# Altium footprint library SamacSys.PcbLib: 3 footprints
Each footprint in its own frame and in the unit in brackets; x right, y up, seen from the top. Pads: shape width x height; smd on the part's side, far side on the other; paste and mask are expansions set on the pad; w line width, h text height; cw(c..) or ccw(c..) is an arc to the next point about the centre after c.
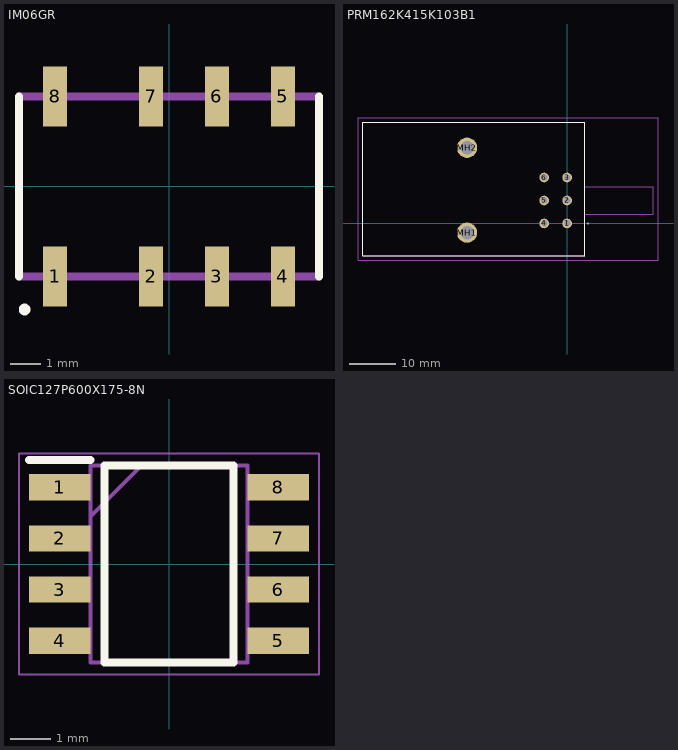
[diagram p0: the footprints below, top view; thin cyan lines are the x and y axes]

## IM06GR [mm]
pads (8):
  rect 0.8x2 smd: 1(-3.8,-3) 2(-0.6,-3) 3(1.6,-3) 4(3.8,-3) 5(3.8,3) 6(1.6,3) 7(-0.6,3) 8(-3.8,3)
Top Overlay:
  circle w0.254: c-4.814,-4.101 r0.067
  lines w0.254: -5,-3 -5,3 ; 5,-3 5,3
Mechanical 13:
  lines w0.254: -5,-3 5,-3 5,3 -5,3 -5,-3
3D body "IM06GR.stp": height 5.65, standoff 0, extent -5,-3.86 5,3.64

## PRM162K415K103B1 [mm]
pads (8):
  round 2.1 hole 1.4: 1(0,0) 2(0,5) 3(0,10) 4(-5,0) 5(-5,5) 6(-5,10)
  round 4.425 hole 2.95: MH1(-21.8,-2) MH2(-21.8,16.5)
Top Overlay:
  lines w0.1: -44.55,-7 3.8,-7 3.8,22 -44.55,22 -44.55,-7
  lines w0.2: 4.5,0 ccw(c4.55,0) 4.6,0 ; 4.5,0 cw(c4.55,0) 4.6,0 ; 4.5,0 ccw(c4.55,0) 4.6,0
Mechanical 13:
  lines w0.2: 3.8,2 18.8,2 18.8,8 4,8 ; -44.55,-7 3.8,-7 3.8,22 -44.55,22 -44.55,-7
Mechanical 15:
  lines w0.1: -45.55,-8 19.8,-8 19.8,23 -45.55,23 -45.55,-8
3D body "PRM162-K420K-103B1.stp": height 58.2, standoff -10.15, extent -17.843,-17.194 16.782,15.356

## SOIC127P600X175-8N [mm]
pads (8):
  rect 1.525x0.65 smd: 1(-2.712,1.905) 2(-2.712,0.635) 3(-2.712,-0.635) 4(-2.712,-1.905) 5(2.712,-1.905) 6(2.712,-0.635) 7(2.712,0.635) 8(2.712,1.905)
Top Overlay:
  lines w0.2: -3.475,2.58 -1.95,2.58 ; -1.6,-2.45 1.6,-2.45 1.6,2.45 -1.6,2.45 -1.6,-2.45
Mechanical 13:
  lines w0.1: -1.95,1.18 -0.68,2.45 ; -1.95,-2.45 1.95,-2.45 1.95,2.45 -1.95,2.45 -1.95,-2.45
Mechanical 15:
  lines w0.05: -3.725,-2.75 3.725,-2.75 3.725,2.75 -3.725,2.75 -3.725,-2.75
3D body "NE555DR.stp": height 1.75, standoff 0, extent -3,-2.45 3,2.45